# Altium schematic symbol library BH1730FVC.SchLib: 1 symbol
Pins are listed as number, name and electrical type; pins without a type are passive.

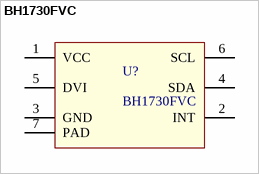
[diagram p0: symbol BH1730FVC]

## BH1730FVC
designator U?
Digital 16bit Serial Output Type Ambient Light Sensor IC
footprint WSOF6 (SMD 1.60mm x 3.00mm x 0.75mm)
pins: 1 VCC, 2 INT, 3 GND, 4 SDA, 5 DVI, 6 SCL, 7 PAD